# Altium schematic symbol library Schlib2.SchLib: 10 symbols
Pins are listed as number, name and electrical type; pins without a type are passive.

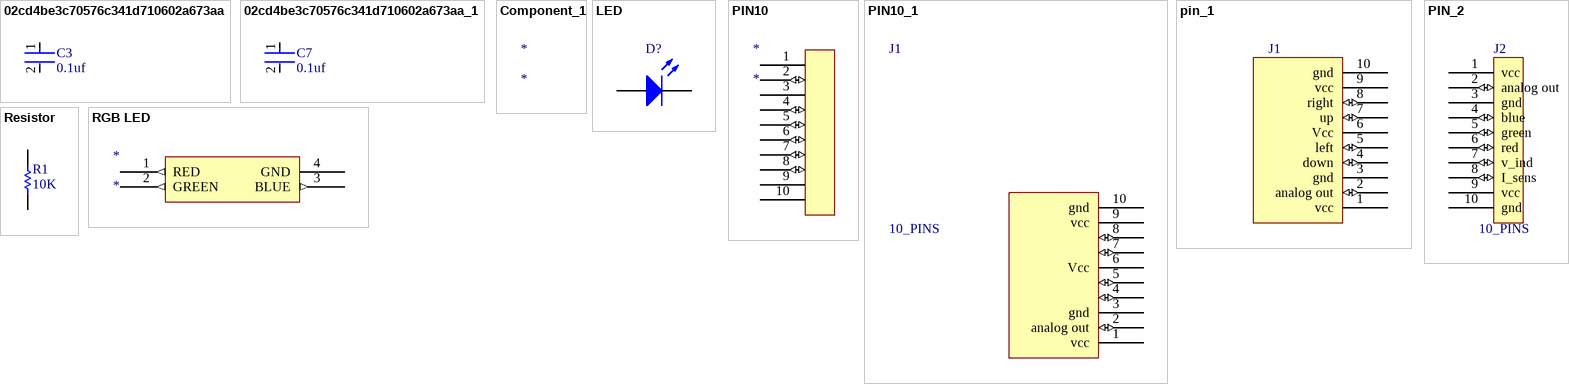
[diagram p0: symbols 02cd4be3c70576c341d710602a673aa to RGB LED]

## 02cd4be3c70576c341d710602a673aa
designator C3, comment 0.1uf
CAP CER 0.1UF 50V X7R RADIAL; Capacitance: 100nF; Tolerance: 10%; Dielectric Material: Ceramic; Lead Length: 30mm; Lead Diameter: 0.5mm; Lead/Base Style: Formed Leads; Diameter: 500um; Max Operating Temperature: 125°C; Case/Package: Dipped; Dielectric: X7R; Lead Free: Lead Free; Construction: RADIAL; Voltage: 50V; Thickness: 2.6mm; Min Operating Temperature: -55°C; Lead Pitch: 5mm; Height: 4mm; Radiation Hardening: No; Voltage Rating: 50V; Depth: 2.5mm; Voltage Rating (DC): 50V; Package Quantity: 1; Weight: 0.005644oz; Series: K; Mount: Through Hole; Termination: Radial; Height - Seated (Max): 0.257inch; Length: 4mm; Packaging: Tape and Reel; Width: 2.5mm; RoHS Compliant: Yes
pins: 1, 2

## 02cd4be3c70576c341d710602a673aa_1
designator C7, comment 0.1uf
CAP CER 0.1UF 50V X7R RADIAL; Capacitance: 100nF; Tolerance: 10%; Dielectric Material: Ceramic; Lead Length: 30mm; Lead Diameter: 0.5mm; Lead/Base Style: Formed Leads; Diameter: 500um; Max Operating Temperature: 125°C; Case/Package: Dipped; Dielectric: X7R; Lead Free: Lead Free; Construction: RADIAL; Voltage: 50V; Thickness: 2.6mm; Min Operating Temperature: -55°C; Lead Pitch: 5mm; Height: 4mm; Radiation Hardening: No; Voltage Rating: 50V; Depth: 2.5mm; Voltage Rating (DC): 50V; Package Quantity: 1; Weight: 0.005644oz; Series: K; Mount: Through Hole; Termination: Radial; Height - Seated (Max): 0.257inch; Length: 4mm; Packaging: Tape and Reel; Width: 2.5mm; RoHS Compliant: Yes
footprint FP-K15H5-MFG
pins: 1, 2

## Component_1
designator *

## LED
designator D?, comment Light-Emitting Diode  (value not drawn)
AF: 1; BV: 0; BV_MAX: 1e99; EG: 1.11; FC: 0.5; IBV: 0.001; IS: 1e-14; MJSW: 0.33; NTUN: 30; TNOM: 27; XTI: 3; SimulationGenericComponent: True; CJO: 0; CJP: 0; CTA: 0; CTP: 0; FCS: 0.5; FV_MAX: 1e99; IKF: 0; IKR: 0; ISR: 1e-14; JSW: 0; JTUN: 0; JTUNSW: 0; KEG: 1; KF: 0; LEVEL: 1; N: 1; NBV: 1; NR: 1; NS: 1; PHP: 1; RS: 0; TCV: 0; TLEV: 0; TLEVC: 0; TM1: 0; TM2: 0; TPB: 0; TPHP: 0; TRS: 0; TRS2: 0; TT: 0; TTT1: 0; TTT2: 0; VJ: 1; XTITUN: 3
simulation model diode (Diodes)
footprint LED
pins: 1 A, 2 K

## PIN10
designator *
footprint pin_10
pins: 1 (power), 2 (io), 3 (power), 4 (io), 5 (io), 6 (io), 7 (io), 8 (io), 9 (power), 10 (power)

## PIN10_1
designator J1, comment 10_PINS
footprint pin_10
pins: 1 vcc (power), 2 analog out (io), 3 gnd (power), 4 (io), 5 (io), 6 Vcc (power), 7 (io), 8 (io), 9 vcc (power), 10 gnd (power)

## pin_1
designator J1
footprint pin_10
pins: 1 vcc (power), 2 analog out (io), 3 gnd (power), 4 down (io), 5 left (io), 6 Vcc (power), 7 up (io), 8 right (io), 9 vcc (power), 10 gnd (power)

## PIN_2
designator J2, comment 10_PINS
footprint pin_10
pins: 1 vcc (power), 2 analog out (io), 3 gnd (power), 4 blue (io), 5 green (io), 6 red (io), 7 v_ind (io), 8 I_sens (io), 9 vcc (power), 10 gnd (power)

## Resistor
designator R1  value 10K  (hidden comment: Resistor)
TC1: 0; SimulationGenericComponent: True; TC2: 0
simulation model R_Resistor_Default (Model Description)
footprint RESISTANCE
pins: 1, 2

## RGB LED
designator *
footprint RGB LED
pins: 1 RED (out), 2 GREEN (out), 3 BLUE (out), 4 GND (power)